# Altium footprint library PCB1.PcbLib: 16 footprints
Each footprint in its own frame and in the unit in brackets; x right, y up, seen from the top. Pads: shape width x height; smd on the part's side, far side on the other; paste and mask are expansions set on the pad; w line width, h text height; cw(c..) or ccw(c..) is an arc to the next point about the centre after c.
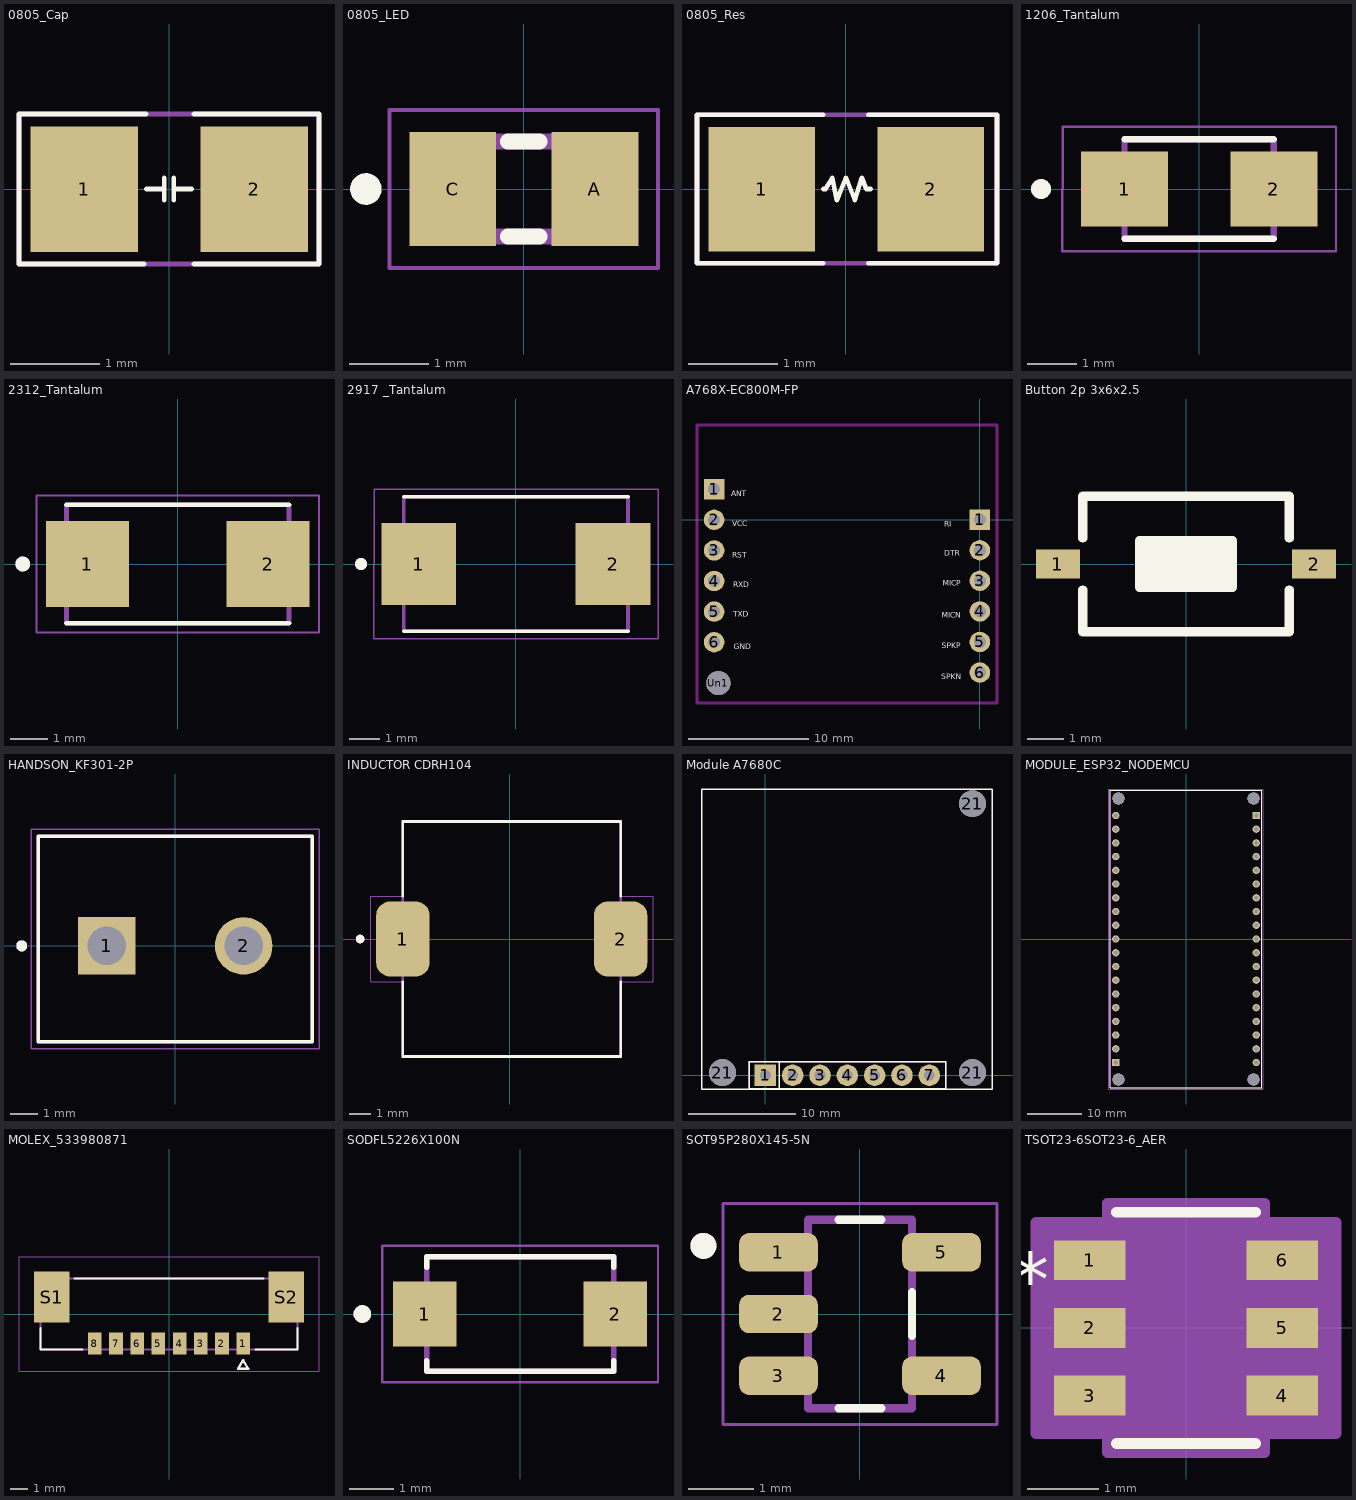
[diagram p0: the footprints below, top view; thin cyan lines are the x and y axes]

## 0805_Cap [mm]
pads (2):
  rect 1.2x1.4 smd: 1(-0.946,-0.003) 2(0.954,-0.003)
Top Overlay:
  lines w0.051: -0.279,-0.838 -1.676,-0.838 -1.676,0.838 -0.254,0.838 ; -0.254,0 -0.051,0 ; -0.051,-0.127 -0.051,0.127 ; 0.051,-0.127 0.051,0.127 ; 0.051,0 0.254,0 ; 0.279,-0.838 1.676,-0.838 1.676,0.838 0.279,0.838
Mechanical 15:
  lines w0.051: -1.676,-0.838 1.676,-0.838 1.676,0.838 -1.676,0.838 -1.676,-0.838
3D body "SW3dPS-smt_resistor_packages.STEP": height 0.61, standoff -0.01, extent -1.006,-0.638 1.014,0.632

## 0805_LED [mm]
pads (2):
  rect 1.1x1.45 smd: A(0.9,0) C(-0.9,0)
Top Overlay:
  circle w0.2: c-2,0 r0.1
  lines w0.2: -0.2,-0.6 0.2,-0.6 ; -0.2,0.6 0.2,0.6
Mechanical 13:
  region: 1,-0.6 0.5,-0.6 0.5,0.6 1,0.6
  region: -0.5,-0.6 -1,-0.6 -1,0.6 -0.5,0.6
  lines w0.2: -1,-0.6 -1,0.6 1,0.6 1,-0.6 -1,-0.6
Mechanical 15:
  lines w0.05: -1.7,-1 -1.7,1 1.7,1 1.7,-1 -1.7,-1
3D body "step_temp.STEP": height 0.9, standoff 0, extent -1,-0.65 1,0.65

## 0805_Res [mm]
pads (2):
  rect 1.2x1.4 smd: 1(-0.946,-0.003) 2(0.954,-0.003)
Top Overlay:
  lines w0.051: -0.254,-0.838 -1.676,-0.838 -1.676,0.838 -0.254,0.838 ; -0.254,0 -0.229,0 -0.152,0.127 -0.102,-0.127 0,0.127 0.102,-0.127 0.178,0.127 0.229,0 0.279,0 ; 0.254,-0.838 1.702,-0.838 1.702,0.838 0.254,0.838
Mechanical 15:
  lines w0.051: -0.305,-0.838 0.305,-0.838 ; -0.279,0.838 0.254,0.838 1.702,0.838 1.702,-0.838 0.254,-0.838 ; -0.254,-0.838 -1.676,-0.838 -1.676,0.838 -0.254,0.838
3D body "SW3dPS-smt_resistor_packages.STEP": height 0.61, standoff -0.01, extent -1.006,-0.638 1.014,0.632

## 1206_Tantalum [mm]
pads (2):
  rect 1.75x1.5 smd: 1(-1.5,0) 2(1.5,0)
Top Overlay:
  circle w0.2: c-3.18,0 r0.1
  lines w0.127: -1.5,-1 1.5,-1 ; -1.5,1 1.5,1
Mechanical 13:
  circle w0.2: c-3.18,0 r0.1
  lines w0.127: -1.5,-1 -1.5,1 1.5,1 1.5,-1 -1.5,-1
Mechanical 15:
  lines w0.05: -2.75,-1.25 -2.747,1.25 2.75,1.25 2.75,-1.25 -2.75,-1.25
3D body "TBJA475K020RBLC0024.STEP": height 1.8, standoff 0, extent -1.6,-0.8 1.6,0.8

## 2312_Tantalum [mm]
pads (2):
  rect 2.24x2.32 smd: 1(-2.435,0) 2(2.435,0)
Top Overlay:
  circle w0.2: c-4.18,0 r0.1
  lines w0.127: -3,-1.6 3,-1.6 ; -3,1.6 3,1.6
Mechanical 13:
  circle w0.2: c-4.18,0 r0.1
  lines w0.127: -3,-1.6 -3,1.6 3,1.6 3,-1.6 -3,-1.6
Mechanical 15:
  lines w0.05: -3.81,-1.85 -3.805,1.85 3.81,1.85 3.81,-1.85 -3.81,-1.85
3D body "TAJC157K010RNJ--3DModel-STEP-269445.STEP": height 2.8, standoff 0, extent -3,-1.6 3,1.6

## 2917 _Tantalum [mm]
pads (2):
  rect 2.5x2.75 smd: 1(-3.25,0) 2(3.25,0)
Top Overlay:
  circle w0.2: c-5.18,0 r0.1
  lines w0.127: -3.75,-2.25 3.75,-2.25 ; -3.75,2.25 3.75,2.25
Mechanical 13:
  circle w0.2: c-5.18,0 r0.1
  lines w0.127: -3.75,-2.25 3.75,-2.25 3.75,2.25 -3.75,2.25 -3.75,-2.25
Mechanical 15:
  lines w0.05: -4.752,-2.5 -4.745,2.5 4.75,2.5 4.75,-2.5 -4.752,-2.5
3D body "TPSD476K025R0125.STEP": height 3.1, standoff 0, extent -3.65,-2.15 3.65,2.15

## A768X-EC800M-FP [mm]
pads (13):
  rect 1.7x1.7 hole 1: 1(-22.074,2.524) 1(0,0)
  rrect100% 1.7x1.7 hole 1: 2(-22.074,-0.016) 2(0,-2.54) 3(-22.074,-2.556) 3(0,-5.08) 4(-22.074,-5.096) 4(0,-7.62) 5(-22.074,-7.636) 5(0,-10.16) 6(-22.074,-10.176) 6(0,-12.7)
  round 2 hole 2: Un1(-21.724,-13.576)
Top Overlay:
  text "TXD" at -20.5,-8.211 h0.76
  text "GND" at -20.45,-10.916 h0.76
  text "RST" at -20.55,-3.316 h0.76
  text "SPKN" at -3.2,-13.416 h0.76
  text "MICN" at -3.15,-8.316 h0.76
  text "VCC" at -20.55,-0.716 h0.76
  text "SPKP" at -3.15,-10.866 h0.76
  text "MICP" at -3.1,-5.666 h0.76
  text "RXD" at -20.5,-5.761 h0.76
  text "ANT" at -20.65,1.788 h0.76
  text "DTR" at -2.95,-3.161 h0.76
  text "RI" at -2.95,-0.761 h0.76
Keep-Out Layer:
  lines w0.254: -23.495,-15.24 1.422,-15.24 1.422,7.874 -23.495,7.874 -23.495,-15.24
Mechanical 6:
  text "'.Designator'" at -1.439,-2.898 h1

## Button 2p 3x6x2.5 [mm]
pads (2):
  rect 1.2x0.8 smd: 1(-3.5,0) 2(3.5,0)
Top Overlay:
  rectangle: -1.27,-0.635 1.27,0.635
  lines w0.254: -2.819,-0.711 -2.819,-1.854 2.819,-1.854 2.819,-0.711 ; -2.819,0.711 -2.819,1.854 2.819,1.854 2.819,0.711 ; -1.27,-0.635 1.27,-0.635 1.27,0.635 -1.27,0.635 -1.27,-0.635
3D body "User Library-Button-SMD.step": height 2.5, standoff 0, extent -3.05,-1.85 3.05,1.85

## HANDSON_KF301-2P [mm]
pads (2):
  rect 2.1x2.1 hole 1.4: 1(-2.5,0)
  round 2.1 hole 1.4: 2(2.5,0)
Top Overlay:
  circle w0.2: c-5.6,0 r0.1
  lines w0.127: -5,-3.5 -5,4 5,4 5,-3.5 -5,-3.5
Mechanical 13:
  circle w0.2: c-5.6,0 r0.1
  lines w0.127: -5,-3.5 5,-3.5 5,4 -5,4 -5,-3.5
Mechanical 15:
  lines w0.05: -5.25,-3.75 5.25,-3.75 5.25,4.25 -5.25,4.25 -5.25,-3.75

## INDUCTOR CDRH104 [mm]
pads (2):
  rrect50% 2.5x3.5 smd: 1(-5,0) 2(5.2,0)
Top Overlay:
  circle w0.2: c-7,0 r0.1
  lines w0.127: -5,-2 -5,-5.5 5.2,-5.5 5.2,-2 ; -5,2 -5,5.5 5.207,5.5 5.207,2
Mechanical 13:
  circle w0.2: c-7,0 r0.1
  lines w0.127: -5,-5.5 5.2,-5.5 5.2,5.5 -5,5.5 -5,-5.5
Mechanical 15:
  lines w0.05: -6.5,-2 -5,-2 -5,-5.5 5.2,-5.5 5.2,-2 6.725,-2 6.725,2 5.2,2 5.2,5.5 -5,5.5 -5,2 -6.5,2 -6.5,-2

## Module A7680C [mm]
pads (10):
  rect 2x2 hole 1: 1(0,0)
  round 2 hole 1: 2(2.54,0) 3(5.08,0) 4(7.62,0) 5(10.16,0) 6(12.7,0) 7(15.24,0)
  round 2.5 hole 2.5: 21(-4,0.25) 21(19.25,0.25) 21(19.25,25.25)
Top Overlay:
  lines w0.127: -1.524,-1.27 16.764,-1.27 16.764,1.27 -1.524,1.27 ; -1.52,-1.27 -1.52,1.27 ; 1.27,-1.27 1.27,1.27 ; -5.898,-1.275 -5.898,26.618 21.075,26.618 21.075,-1.275 -5.898,-1.275
Mechanical 15:
  lines w0.127: -1.524,-1.27 16.764,-1.27 16.764,1.27 -1.524,1.27 -1.524,-1.27
3D body "Module A7680C THUDUC No-Volte v6.step": height 12.01, standoff 0.47, extent -5.875,-1.275 21.125,26.725

## MODULE_ESP32_NODEMCU [mm]
height 6.6
pads (42):
  rect 1.35x1.35 / inner round 1.35 / far side rect 1.35x1.35 hole 0.9: J4_1(13,22.86) J5_1(-13,-22.86)
  round 1.35 hole 0.9: J4_2(13,20.32) J4_3(13,17.78) J4_4(13,15.24) J4_5(13,12.7) J4_6(13,10.16) J4_7(13,7.62) J4_8(13,5.08) J4_9(13,2.54) J4_10(13,0) J4_11(13,-2.54) J4_12(13,-5.08) J4_13(13,-7.62) J4_14(13,-10.16) J4_15(13,-12.7) J4_16(13,-15.24) J4_17(13,-17.78) J4_18(13,-20.32) J4_19(13,-22.86) J5_2(-13,-20.32) J5_3(-13,-17.78) J5_4(-13,-15.24) J5_5(-13,-12.7) J5_6(-13,-10.16) J5_7(-13,-7.62) J5_8(-13,-5.08) J5_9(-13,-2.54) J5_10(-13,0) J5_11(-13,2.54) J5_12(-13,5.08) J5_13(-13,7.62) J5_14(-13,10.16) J5_15(-13,12.7) J5_16(-13,15.24) J5_17(-13,17.78) J5_18(-13,20.32) J5_19(-13,22.86)
  round 2.25 hole 2.25 unplated: ""(-12.5,-26) ""(-12.5,26) ""(12.5,-26) ""(12.5,26)
Top Overlay:
  lines w0.127: -14,-27.5 -14,27.5 14,27.5 14,-27.5 -14,-27.5
Mechanical 13:
  lines w0.127: -14,-27.5 -14,27.5 14,27.5 14,-27.5 -14,-27.5
Mechanical 15:
  lines w0.05: -14.25,-27.75 -14.25,27.75 14.25,27.75 14.25,-27.75 -14.25,-27.75
3D body "step_temp.STEP": height 7.05, standoff -6, extent -14.25,-28.15 14.25,27.5

## MOLEX_533980871 [mm]
pads (10):
  rect 0.8x1.3 smd mask+0.076: 1(4.375,-1.75) 2(3.125,-1.75) 3(1.875,-1.75) 4(0.625,-1.75) 5(-0.625,-1.75) 6(-1.875,-1.75) 7(-3.125,-1.75) 8(-4.375,-1.75)
  rect 2.1x3 smd mask+0.076: S1(-6.925,1) S2(6.925,1)
Top Overlay:
  lines w0.127: -7.575,-0.82 -7.575,-2.1 -5.095,-2.1 ; -5.555,2.1 5.555,2.1 ; 5.095,-2.1 7.575,-2.1 7.575,-0.82 ; 4.075,-3.23 4.375,-2.73 4.675,-3.23 4.075,-3.23
Mechanical 13:
  lines w0.127: -7.575,-2.1 -7.575,2.1 7.575,2.1 7.575,-2.1 -7.575,-2.1 ; 4.075,-3.23 4.375,-2.73 4.675,-3.23 4.075,-3.23
Mechanical 15:
  lines w0.05: -8.845,-3.37 8.845,-3.37 8.845,3.37 -8.845,3.37 -8.845,-3.37

## SODFL5226X100N [mm]
pads (2):
  rect 1.44x1.48 smd: 1(-2.165,0) 2(2.165,0)
Top Overlay:
  circle w0.2: c-3.585,0 r0.1
  lines w0.127: -2.125,-1.06 -2.125,-1.3 2.125,-1.3 2.125,-1.06 ; -2.125,1.06 -2.125,1.3 2.125,1.3 2.125,1.06
Mechanical 13:
  circle w0.2: c-3.585,0 r0.1
  lines w0.127: -2.125,-1.3 -2.125,1.3 2.125,1.3 2.125,-1.3 -2.125,-1.3
Mechanical 15:
  lines w0.05: -3.135,-1.55 -3.135,1.55 3.135,1.55 3.135,-1.55 -3.135,-1.55
3D body "step_temp.STEP": height 1, standoff 0, extent -2.6,-1.3 2.6,1.299

## SOT95P280X145-5N [mm]
pads (5):
  rrect50% 1.21x0.59 smd: 1(-1.255,0.95) 2(-1.255,0) 3(-1.255,-0.95) 4(1.255,-0.95) 5(1.255,0.95)
Top Overlay:
  circle w0.2: c-2.41,1.05 r0.1
  lines w0.127: -0.33,-1.45 0.33,-1.45 ; -0.33,1.45 0.33,1.45 ; 0.8,-0.335 0.8,0.335
Mechanical 13:
  circle w0.2: c-2.41,1.05 r0.1
  lines w0.127: -0.8,-1.45 -0.8,1.45 0.8,1.45 0.8,-1.45 -0.8,-1.45
Mechanical 15:
  lines w0.05: -2.11,-1.7 2.11,-1.7 2.11,1.7 -2.11,1.7 -2.11,-1.7

## TSOT23-6SOT23-6_AER [mil]
pads (6):
  rect 39.5x22 smd paste+0 mask+0: 1(-53.25,37.4) 2(-53.25,0) 3(-53.25,-37.4) 4(53.25,-37.4) 5(53.25,0) 6(53.25,37.4)
Top Overlay:
  lines w6: -38.5,-64 38.5,-64 ; -38.5,64 38.5,64
  text "*" at -75.75,54.4 h30
Mechanical 13:
  lines w0: -12,59 ccw(c0,59) 12,59
  lines w1: -59,-47.4 -33.5,-47.4 -33.5,-27.4 -59,-27.4 -59,-47.4 ; -59,-10 -33.5,-10 -33.5,10 -59,10 -59,-10 ; -59,27.4 -33.5,27.4 -33.5,47.4 -59,47.4 -59,27.4 ; -33.5,-59 -33.5,59 33.5,59 33.5,-59 -33.5,-59 ; 33.5,-47.4 59,-47.4 59,-27.4 33.5,-27.4 33.5,-47.4 ; 33.5,-10 59,-10 59,10 33.5,10 33.5,-10 ; 33.5,27.4 59,27.4 59,47.4 33.5,47.4 33.5,27.4
  text "*" at -31,6 h30
Mechanical 15:
  region: -43.5,-58.4 -83,-58.4 -83,58.4 -43.5,58.4 -43.5,69 43.5,69 43.5,58.4 83,58.4 83,-58.4 43.5,-58.4 43.5,-69 -43.5,-69
  lines w6: -83,-58.4 -43.5,-58.4 -43.5,-69 43.5,-69 43.5,-58.4 83,-58.4 83,58.4 43.5,58.4 43.5,69 -43.5,69 -43.5,58.4 -83,58.4 -83,-58.4
3D body "TSOT23-6SOT23-6_AER.step": height 57.09, standoff 0, extent -59.02,-59.02 59.02,59.02